# Altium footprint library SG__PCB_SMD_Passive.PcbLib: 6 footprints
Each footprint in its own frame and in the unit in brackets; x right, y up, seen from the top. Pads: shape width x height; smd on the part's side, far side on the other; paste and mask are expansions set on the pad; w line width, h text height; cw(c..) or ccw(c..) is an arc to the next point about the centre after c.
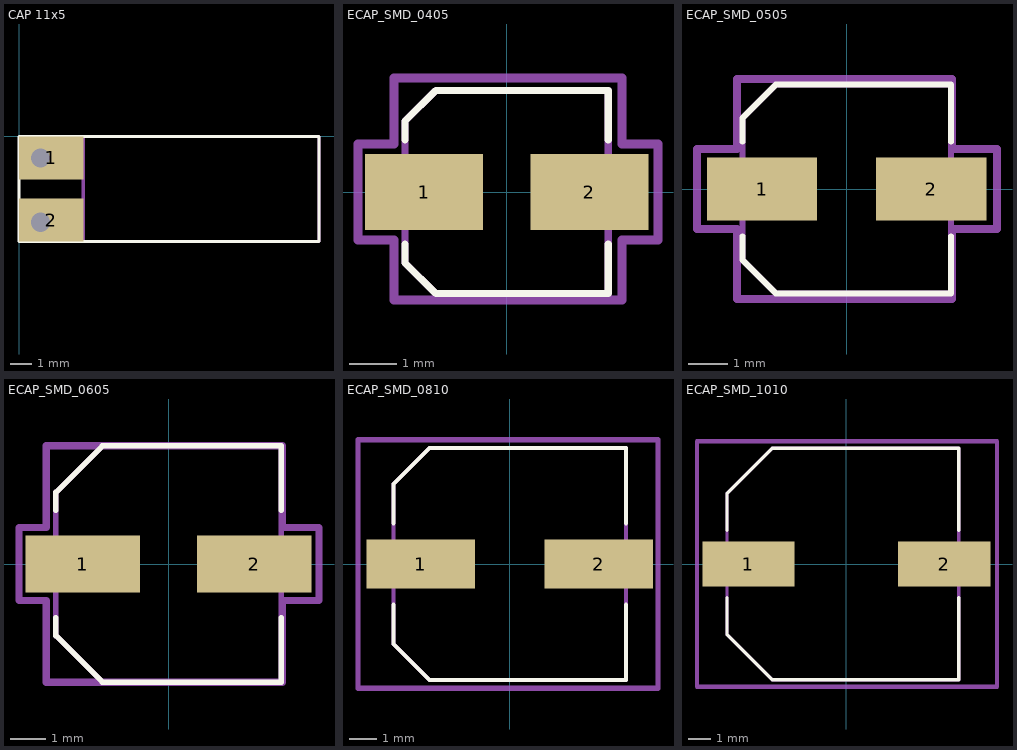
[diagram p0: the footprints below, top view; thin cyan lines are the x and y axes]

## CAP 11x5 [mm]
height 5
pads (2):
  rect 3x2 smd: 1(1.5,-1) 2(1.5,-3.9)
via 1,-1 diameter 1.2 hole 0.9
via 1,-4 diameter 1.2 hole 0.9
Top Overlay:
  lines w0.15: 0,-4.9 14,-4.9 14,0 0,0 0,-4.9
Mechanical 1:
  lines w0.15: 3,-4.9 14,-4.9 14,0 3,0 3,-4.9

## ECAP_SMD_0405 [mm]
pads (2):
  rect 2.5x1.6 smd mask+0.05: 1(-1.75,0) 2(1.75,0)
Top Overlay:
  lines w0.15: -2.15,-1.1 -2.15,-1.5 -1.5,-2.15 2.15,-2.15 2.15,-1.1 ; -2.15,1.1 -2.15,1.5 -1.5,2.15 2.15,2.15 2.15,1.1
Top Assembly:
  lines w0.15: -2.15,-1.5 -2.15,-1.1 -2.15,1.5 -1.5,2.15 2.15,2.15 2.15,-1.1 2.15,-2.15 -1.5,-2.15 -2.15,-1.5
Top Courtyard:
  lines w0.2: -3.147,-1.016 -2.385,-1.016 -2.385,-2.286 2.441,-2.286 2.441,-1.016 3.203,-1.016 3.203,1.016 2.441,1.016 2.441,2.413 -2.385,2.413 -2.385,1.016 -3.147,1.016 -3.147,-1.016

## ECAP_SMD_0505 [mm]
pads (2):
  rect 2.8x1.6 smd mask+0.05: 1(-2.15,0) 2(2.15,0)
Top Overlay:
  lines w0.15: -2.65,-1.2 -2.65,-1.8 -1.8,-2.65 2.65,-2.65 2.65,-1.2 ; -2.65,1.2 -2.65,1.8 -1.8,2.65 2.65,2.65 2.65,1.2
Top Assembly:
  lines w0.15: -2.65,-1.8 -1.8,-2.65 2.65,-2.65 2.65,-1.2 2.65,2.65 -1.8,2.65 -2.65,1.8 -2.65,-1.2 -2.65,-1.8
Top Courtyard:
  lines w0.2: -3.801,-1.016 -3.801,1.016 -2.785,1.016 -2.785,2.794 2.676,2.794 2.676,1.016 3.819,1.016 3.819,-1.016 2.676,-1.016 2.676,-2.794 -2.785,-2.794 -2.785,-1.016 -3.801,-1.016
3D body "ECAP_C.step": height 5.8, standoff 0, extent -2.764,-2.65 3.036,2.65

## ECAP_SMD_0605 [mm]
pads (2):
  rect 3.2x1.6 smd mask+0.05: 1(-2.4,0) 2(2.4,0)
Top Overlay:
  lines w0.15: -3.15,-1.5 -3.15,-1.8 -3.15,-2 -1.85,-3.3 3.15,-3.3 3.15,-1.5 ; -3.15,1.5 -3.15,1.8 -3.15,2 -1.85,3.3 -1.15,3.3 3.15,3.3 3.15,1.5
Top Assembly:
  lines w0.15: -3.15,-2 -3.15,-1.8 -3.15,-1.5 -3.15,1.8 -3.15,2 -1.85,3.3 -1.15,3.3 3.15,3.3 3.15,-1.5 3.15,-3.3 -1.85,-3.3 -3.15,-2
Top Courtyard:
  lines w0.2: -4.178,-1.016 -4.178,1.016 -3.416,1.016 -3.416,3.302 3.188,3.302 3.188,1.016 4.204,1.016 4.204,-1.016 3.188,-1.016 3.188,-3.302 -3.416,-3.302 -3.416,-1.016 -4.178,-1.016
3D body "ALU-D.STEP": height 5.4, standoff 0, extent -3.5,-3.3 3.5,3.3

## ECAP_SMD_0810 [mm]
pads (2):
  rect 4x1.8 smd mask+0.05: 1(-3.275,0) 2(3.275,0)
Top Overlay:
  lines w0.15: -4.275,-1.5 -4.275,-2.95 -2.95,-4.275 4.275,-4.275 4.275,-1.5 ; -4.275,1.5 -4.275,2.95 -2.95,4.275 4.275,4.275 4.275,1.5
Top Assembly:
  lines w0.15: -4.275,-2.95 -4.275,-1.5 -4.275,2.95 -2.95,4.275 4.275,4.275 4.275,-1.5 4.275,-4.275 -2.95,-4.275 -4.275,-2.95
Top Courtyard:
  lines w0.2: -5.588,-4.572 -5.588,4.572 5.461,4.572 5.461,-4.572 -5.588,-4.572
3D body "ECAP_SMD_0810.STEP": height 10.3, standoff -0.2, extent -4.852,-4.25 4.848,4.25

## ECAP_SMD_1010 [mm]
pads (2):
  rect 4.1x2 smd mask+0.05: 1(-4.35,0) 2(4.35,0)
Top Overlay:
  lines w0.15: -5.3,-1.5 -5.3,-3.15 -3.3,-5.15 5,-5.15 5,-1.5 ; -5.3,1.5 -5.3,3.15 -3.3,5.15 5,5.15 5,1.5
Top Assembly:
  lines w0.15: -5.3,-3.15 -5.3,1.5 -5.3,3.15 -3.3,5.15 5,5.15 5,1.5 5,-5.15 -3.3,-5.15 -5.3,-3.15
Top Courtyard:
  lines w0.2: 6.445,5.461 6.699,5.461 6.699,-5.461 -6.636,-5.461 -6.636,5.461 6.572,5.461